# EAGLE library part B7B-PH-K (library con-jst-ph)
HEADER
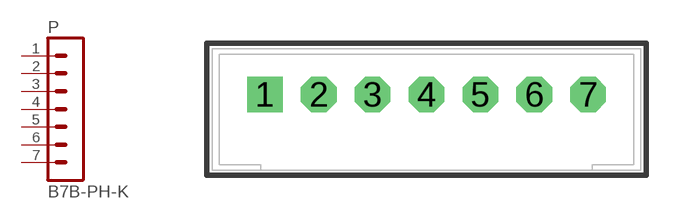
[diagram p1: symbol with the pads of B7B-PH-K; footprint B7B-PH-K]

Designator prefix P

## B7B-PH-K  [B7B-PH-K]
1  1  pas
2  2  pas
3  3  pas
4  4  pas
5  5  pas
6  6  pas
7  7  pas

## Footprint B7B-PH-K (pad centres in mm)
HEADER
drill 0.813 square: 1 -6,0
drill 0.813 octagon: 2 -4,0; 3 -2,0; 4 0,0; 5 2,0; 6 4,0; 7 6,0